# EAGLE library part LMC6482 (library Parts)
CMOS デュアル入出力フルスイング・オペアンプ 電圧 - 供給(シングル)：3 V～15.5 V 動作温度：-40°C～85°C
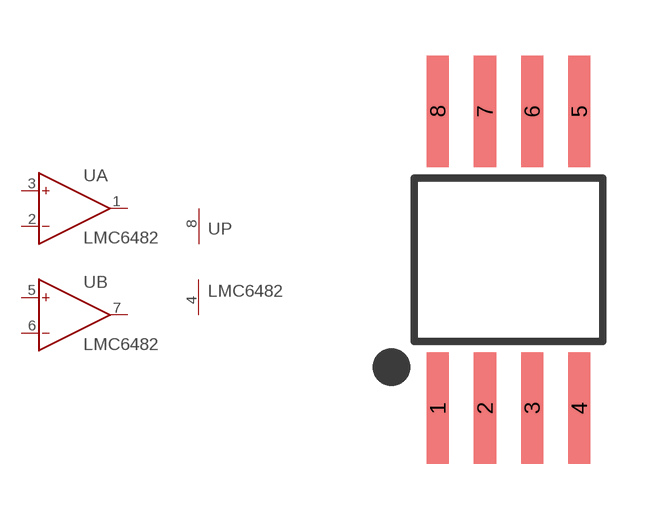
[diagram p25: symbol with the pads of SO8_DEV; footprint SO8_DEV]

Designator prefix U; gates A=OP B=OP P=PWR+-

## LMC6482AIMX_  [SO8_DEV]
1  A:OUT  out
2  A:IN-  in
3  A:IN+  in
4  P:V-  pas
5  B:IN+  in
6  B:IN-  in
7  B:OUT  out
8  P:V+  pas

## Footprint SO8_DEV (pad centres in mm)
SO8 手はんだパターン
smd 0.6 x 3: 1 -1.905,-4; 2 -0.635,-4; 3 0.635,-4; 4 1.905,-4; 5 1.905,4; 6 0.635,4; 7 -0.635,4; 8 -1.905,4